# Altium integrated library ceramic_resistor.IntLib: 1 symbol
Pins are listed as number, name and electrical type; pins without a type are passive.

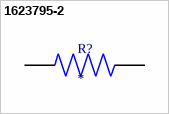
[diagram p0: symbol 1623795-2]

## 1623795-2
designator R?
Res Wirewound 10 Ohm 5% 10W Â±300ppm/Â°C Ceramic AXL Thru-Hole; MP: 1623795-2; MF: TE Connectivity; Package: None; Availability: Warning; Value: *; EU_RoHS_Compliance: Compliant; SnapEDA_Link: https://www.snapeda.com/parts/1623795-2/TE%20Connectivity%20Passive%20Product/view-part/2367366/?ref=snap; Price: None; Check_prices: https://www.snapeda.com/parts/1623795-2/TE%20Connectivity%20Passive%20Product/view-part/2367366/?ref=eda
footprint RESAR5460W80L4950T1100H100
pins: 1, 2